# EAGLE library part SIM800L (library SIM800L)
SIM8000L. Quad-band GSM/GPRS Module
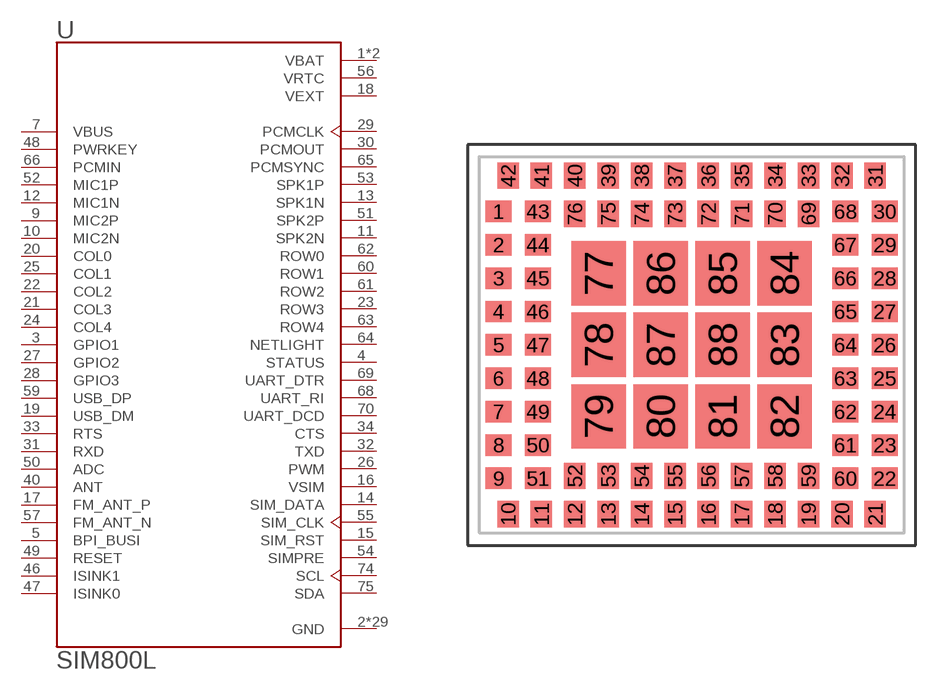
[diagram p0: symbol with the pads of MODULE_SIM800L; footprint MODULE_SIM800L]

Designator prefix U

## SIM800L (Availability: Unavailable; MF: Simcom; MP: SIM800L; Package: None; Price: None)  [MODULE_SIM800L]
1  VBAT  pwr
2  GND  pwr
3  GPIO1
4  STATUS  out
5  BPI_BUSI  out
6  GND  pwr
7  VBUS  in
8  GND  pwr
9  MIC2P  in
10  MIC2N  in
11  SPK2N  out
12  MIC1N  in
13  SPK1N  out
14  SIM_DATA
15  SIM_RST  out
16  VSIM  out
17  FM_ANT_P  in
18  VEXT  pwr
19  USB_DM
20  COL0  in
21  COL3  in
22  COL2  in
23  ROW3  out
24  COL4  in
25  COL1  in
26  PWM  out
27  GPIO2
28  GPIO3
29  PCMCLK  out
30  PCMOUT  out
31  RXD  in
32  TXD  out
33  RTS  in
34  CTS  out
35  GND  pwr
37  GND  pwr
38  GND  pwr
39  GND  pwr
40  ANT
41  GND  pwr
42  VBAT  pwr
43  GND  pwr
44  GND  pwr
45  GND  pwr
46  ISINK1  in
47  ISINK0  in
48  PWRKEY  in
49  RESET  in
50  ADC  in
51  SPK2P  out
52  MIC1P  in
53  SPK1P  out
54  SIMPRE  out
55  SIM_CLK  out
56  VRTC  pwr
57  FM_ANT_N  in
58  GND  pwr
59  USB_DP
60  ROW1  out
61  ROW2  out
62  ROW0  out
63  ROW4  out
64  NETLIGHT  out
65  PCMSYNC  out
66  PCMIN  in
67  GND  pwr
68  UART_RI  out
69  UART_DTR  out
70  UART_DCD  out
71  GND  pwr
72  GND  pwr
73  GND  pwr
74  SCL  out
75  SDA
76  GND  pwr
77  GND  pwr
78  GND  pwr
79  GND  pwr
80  GND  pwr
81  GND  pwr
82  GND  pwr
83  GND  pwr
84  GND  pwr
85  GND  pwr
86  GND  pwr
87  GND  pwr
88  GND  pwr

## Footprint MODULE_SIM800L (pad centres in mm)
smd 1.1 x 0.9: 1 -8.1,5.6; 2 -8.1,4.2; 3 -8.1,2.8; 4 -8.1,1.4; 5 -8.1,0; 6 -8.1,-1.4; 7 -8.1,-2.8; 8 -8.1,-4.2; 9 -8.1,-5.6; 22 8.1,-5.6; 23 8.1,-4.2; 24 8.1,-2.8; 25 8.1,-1.4; 26 8.1,0; 27 8.1,1.4; 28 8.1,2.8; 29 8.1,4.2; 30 8.1,5.6; 43 -6.45,5.6; 44 -6.45,4.2; 45 -6.45,2.8; 46 -6.45,1.4; 47 -6.45,0; 48 -6.45,-1.4; 49 -6.45,-2.8; 50 -6.45,-4.2; 51 -6.45,-5.6; 60 6.45,-5.6; 61 6.45,-4.2; 62 6.45,-2.8; 63 6.45,-1.4; 64 6.45,0; 65 6.45,1.4; 66 6.45,2.8; 67 6.45,4.2; 68 6.45,5.6
smd 0.9 x 1.1: 10 -7.7,-7.1; 11 -6.3,-7.1; 12 -4.9,-7.1; 13 -3.5,-7.1; 14 -2.1,-7.1; 15 -0.7,-7.1; 16 0.7,-7.1; 17 2.1,-7.1; 18 3.5,-7.1; 19 4.9,-7.1; 20 6.3,-7.1; 21 7.7,-7.1; 31 7.7,7.1; 32 6.3,7.1; 33 4.9,7.1; 34 3.5,7.1; 35 2.1,7.1; 36 0.7,7.1; 37 -0.7,7.1; 38 -2.1,7.1; 39 -3.5,7.1; 40 -4.9,7.1; 41 -6.3,7.1; 42 -7.7,7.1; 52 -4.9,-5.5; 53 -3.5,-5.5; 54 -2.1,-5.5; 55 -0.7,-5.5; 56 0.7,-5.5; 57 2.1,-5.5; 58 3.5,-5.5; 59 4.9,-5.5; 69 4.9,5.5; 70 3.5,5.5; 71 2.1,5.5; 72 0.7,5.5; 73 -0.7,5.5; 74 -2.1,5.5; 75 -3.5,5.5; 76 -4.9,5.5
smd 2.3 x 2.7: 77 -3.9,3; 78 -3.9,0; 79 -3.9,-3; 80 -1.3,-3; 81 1.3,-3; 82 3.9,-3; 83 3.9,0; 84 3.9,3; 85 1.3,3; 86 -1.3,3; 87 -1.3,0; 88 1.3,0